# Altium schematic symbol library AltiumAssignment.SchLib: 1 symbol
Pins are listed as number, name and electrical type; pins without a type are passive.

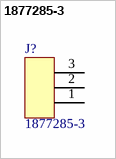
[diagram p0: symbol 1877285-3]

## 1877285-3
designator J?
Supplier 1: Digi-Key; Supplier Part Number 1: A99846-ND
footprint 1877285-3
pins: 1, 2, 3